# Altium footprint library P5.PcbLib: 18 footprints (part 2 of 2)
Each footprint in its own frame and in the unit in brackets; x right, y up, seen from the top. Pads: shape width x height; smd on the part's side, far side on the other; paste and mask are expansions set on the pad; w line width, h text height; cw(c..) or ccw(c..) is an arc to the next point about the centre after c.
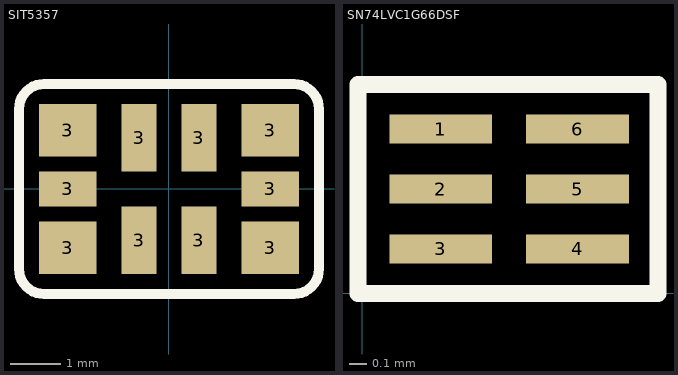
[diagram p1: the footprints below, top view; thin cyan lines are the x and y axes]

## SIT5357 [mm]
pads (10):
  rect 1.15x1.05 smd: 3(-2.025,-1.175) 3(-2.025,1.175) 3(2.025,-1.175) 3(2.025,1.175)
  rect 1.15x0.7 smd: 3(-2.025,0) 3(2.025,0)
  rect 0.7x1.35 smd: 3(-0.6,-1.025) 3(-0.6,1.025) 3(0.6,-1.025) 3(0.6,1.025)
Top Overlay:
  lines w0.2: -3,-1.6 ccw(c-2.5,-1.6) -2.5,-2.1 2.5,-2.1 ccw(c2.5,-1.6) 3,-1.6 3,1.6 ccw(c2.5,1.6) 2.5,2.1 -2.5,2.1 ccw(c-2.5,1.6) -3,1.6 -3,-1.6

## SN74LVC1G66DSF [mm]
pads (6):
  rect 0.6x0.17 smd: 1(0.457,0.96) 2(0.457,0.61) 3(0.457,0.26) 4(1.257,0.26) 5(1.257,0.61) 6(1.257,0.96)
Top Overlay:
  lines w0.1: -0.025,0 -0.025,1.219 1.727,1.219 1.727,0 -0.025,0